# Altium footprint library SODFL3816X120N.PcbLib: 1 footprints
Each footprint in its own frame and in the unit in brackets; x right, y up, seen from the top. Pads: shape width x height; smd on the part's side, far side on the other; paste and mask are expansions set on the pad; w line width, h text height; cw(c..) or ccw(c..) is an arc to the next point about the centre after c.
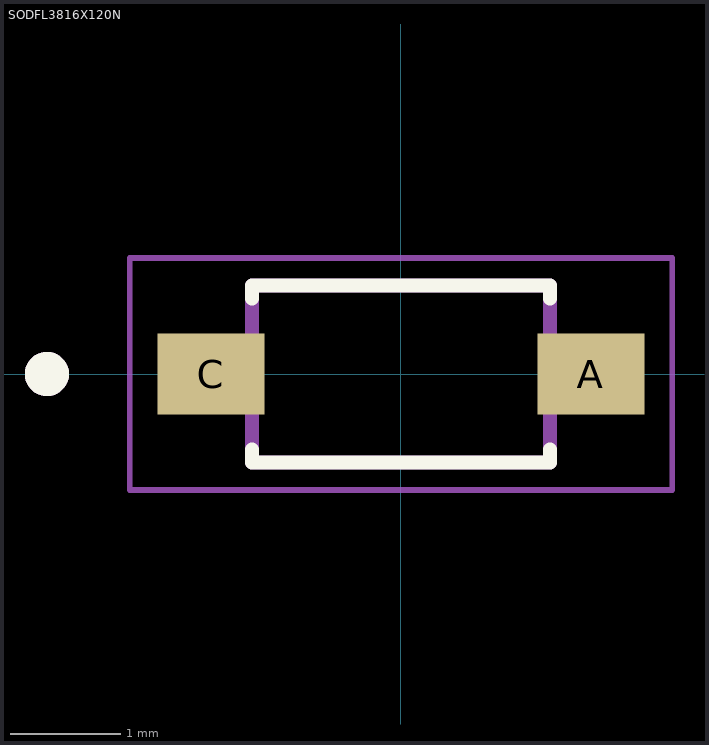
[diagram p0: the footprint, top view; thin cyan lines are the x and y axes]

## SODFL3816X120N [mm]
height 1.2
pads (2):
  rect 0.97x0.73 smd paste+0 mask+0.102: A(1.72,0) C(-1.72,0)
Top Overlay:
  circle w0.2: c-3.205,0 r0.1
  lines w0.127: -1.35,-0.685 -1.35,-0.8 1.35,-0.8 1.35,-0.685 ; -1.35,0.685 -1.35,0.8 1.35,0.8 1.35,0.685
Assembly Top:
  circle w0.2: c-3.205,0 r0.1
  lines w0.127: -1.35,-0.8 1.35,-0.8 1.35,0.8 -1.35,0.8 -1.35,-0.8
Courtyard Top:
  lines w0.05: -2.455,-1.05 2.455,-1.05 2.455,1.05 -2.455,1.05 -2.455,-1.05
3D body "step_temp.STEP": height 1.1, standoff -0.5, extent 0,-1.1 3.8,-0.1